# Altium footprint library F_0805_2012.PcbLib: 1 footprints
Each footprint in its own frame and in the unit in brackets; x right, y up, seen from the top. Pads: shape width x height; smd on the part's side, far side on the other; paste and mask are expansions set on the pad; w line width, h text height; cw(c..) or ccw(c..) is an arc to the next point about the centre after c.
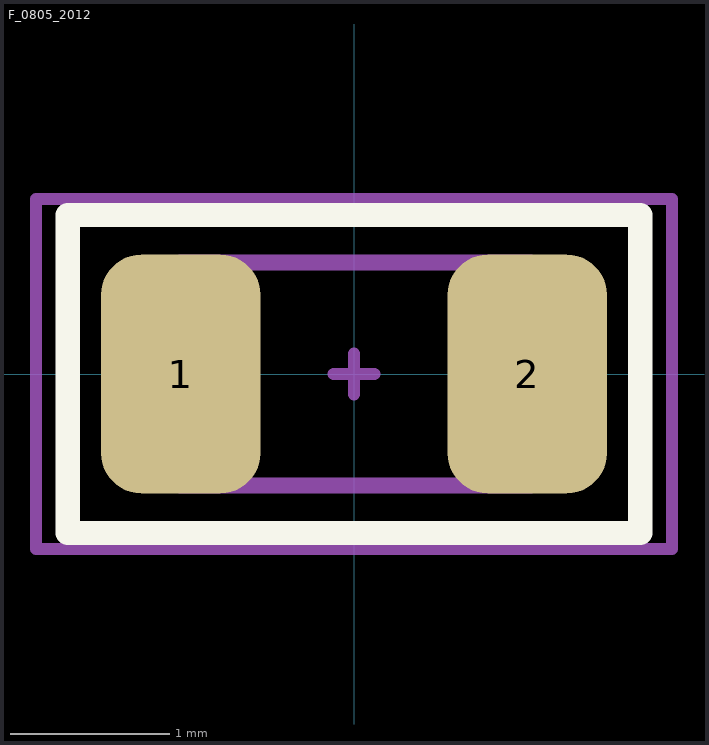
[diagram p0: the footprint, top view; thin cyan lines are the x and y axes]

## F_0805_2012 [mm]
pads (2):
  rrect50% 1x1.5 smd: 1(-1.089,0) 2(1.089,0)
Top Overlay:
  lines w0.152: -1.8,-1 1.8,-1 1.8,1 -1.8,1 -1.8,-1
Top Assembly:
  lines w0.1: -1.09,-0.7 1.11,-0.7 1.11,0.7 -1.09,0.7 -1.09,-0.7
Top Courtyard:
  lines w0.076: -0.127,0 0.127,0 ; 0,-0.127 0,0.127 ; -2,-1.1 2,-1.1 2,1.1 -2,1.1 -2,-1.1
3D body "User Library-fuse0805L050WR.step": height 1.23, standoff -0.01, extent -1.105,-0.749 1.105,0.749